# Altium schematic symbol library ZSFG469711.SchLib: 1 symbol
Pins are listed as number, name and electrical type; pins without a type are passive.

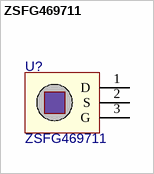
[diagram p0: symbol ZSFG469711]

## ZSFG469711
designator U?
Passive Infrared (PIR) sensor; Value: ZSFG469711
footprint TO-5-3-PIR
pins: 1 D, 2 S (power), 3 G (power)